# EAGLE library part MC33926-SINGLE-BO (library s3-pilot2-lbr)
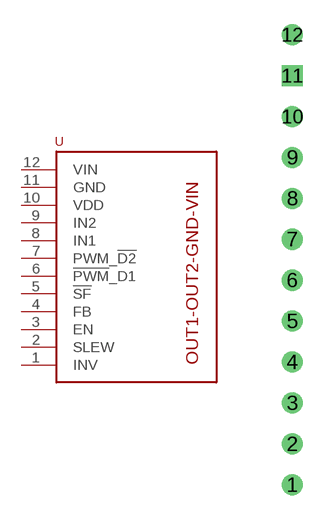
[diagram p2: symbol with the pads of MC33926-SINGLE-BO; footprint MC33926-SINGLE-BO]

Designator prefix -

## MC33926-SINGLE-BO  [MC33926-SINGLE-BO]
1  INV  in
2  SLEW  in
3  EN  in
4  FB  out
5  !SF  out
6  !PWM!_D1  in
7  PWM_!D2  in
8  IN1  in
9  IN2  in
10  VDD  pwr
11  GND  pwr
12  VIN  pwr

## Footprint MC33926-SINGLE-BO (pad centres in mm)
drill 0.8: 1 -5.08,-21.59; 2 -5.08,-19.05; 3 -5.08,-16.51; 4 -5.08,-13.97; 5 -5.08,-11.43; 6 -5.08,-8.89; 7 -5.08,-6.35; 8 -5.08,-3.81; 9 -5.08,-1.27; 10 -5.08,1.27; 12 -5.08,6.35
drill 0.8 square: 11 -5.08,3.81